# EAGLE library part 2364 (library commodore)
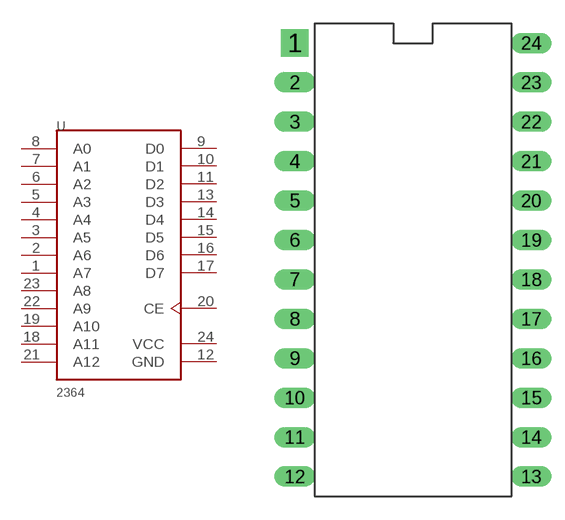
[diagram p45: symbol with the pads of DIP24; footprint DIP24]

Designator prefix -

## 2364  [DIP24]
1  A7
2  A6
3  A5
4  A4
5  A3
6  A2
7  A1
8  A0
9  D0
10  D1
11  D2
12  GND  sup
13  D3
14  D4
15  D5
16  D6
17  D7
18  A11
19  A10
20  CE  in
21  A12
22  A9
23  A8
24  VCC  pwr

## Footprint DIP24 (pad centres in mm)
drill 0.8 pad 1.778 square: 1 -7.62,8.89
drill 0.8 long: 2 -7.62,6.35; 3 -7.62,3.81; 4 -7.62,1.27; 5 -7.62,-1.27; 6 -7.62,-3.81; 7 -7.62,-6.35; 8 -7.62,-8.89; 9 -7.62,-11.43; 10 -7.62,-13.97; 11 -7.62,-16.51; 12 -7.62,-19.05; 13 7.62,-19.05; 14 7.62,-16.51; 15 7.62,-13.97; 16 7.62,-11.43; 17 7.62,-8.89; 18 7.62,-6.35; 19 7.62,-3.81; 20 7.62,-1.27; 21 7.62,1.27; 22 7.62,3.81; 23 7.62,6.35; 24 7.62,8.89